# Altium integrated library 150060RS75000.IntLib: 1 symbol
Pins are listed as number, name and electrical type; pins without a type are passive.

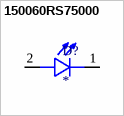
[diagram p0: symbol 150060RS75000]

## 150060RS75000
designator D?
MP: 150060RS75000; Availability: Unavailable; Price: None; Value: *; Package: None
footprint LED_150060RS75000
pins: 1 C, 2 A